# Altium schematic symbol library SWITCH_KEY.SchLib: 2 symbols
Pins are listed as number, name and electrical type; pins without a type are passive.

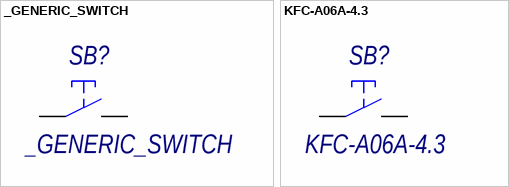
[diagram p0: symbols _GENERIC_SWITCH to KFC-A06A-4.3]

## _GENERIC_SWITCH
designator SB?
ComponentDescription: Кнопка тактовая, _GENERIC_SWITCH; ComponentTypе: Кнопка тактовая
footprint TS6-THT_H-13.0; pin to pad 1>1+2 2>3+4
pins: 1, 2 4

## KFC-A06A-4.3
designator SB?
Кнопка тактовая, без фиксации, SMD; ComponentDescription: Разъём штыревой (угловой), KFC-A06A-4.3; ComponentTypе: Разъём штыревой (угловой)
footprint KFC-A06A-4.3 (Кнопка тактовая SMD 6x6x4.3); pin to pad 1>1+2 2>3+4
pins: 1, 2 4